# Altium integrated library Module_ESP-12S.IntLib: 1 symbol
Pins are listed as number, name and electrical type; pins without a type are passive.

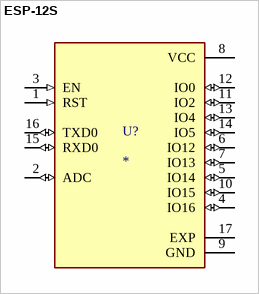
[diagram p0: symbol ESP-12S]

## ESP-12S
designator U?
WiFi 802.11b/g/n Transceiver Module 2.412GHz ~ 2.484GHz PCB Trace Surface Mount; MF: RF Solutions; MP: ESP-12S; Package: None; Price: None; Check_prices: https://www.snapeda.com/parts/ESP-12S/RF+Solutions/view-part/?ref=eda; Value: *; SnapEDA_Link: https://www.snapeda.com/parts/ESP-12S/RF+Solutions/view-part/?ref=snap; Availability: In Stock; Purchase-URL: https://pricing.snapeda.com/search?q=ESP-12S&ref=eda
footprint MODULE_ESP-12S
pins: 1 RST (in), 2 ADC (io), 3 EN (in), 4 IO16 (io), 5 IO14 (io), 6 IO12 (io), 7 IO13 (io), 8 VCC (power), 9 GND (power), 10 IO15 (io), 11 IO2 (io), 12 IO0 (io), 13 IO4 (io), 14 IO5 (io), 15 RXD0 (io), 16 TXD0 (io), 17 EXP (power)